# EAGLE library part REGULATOR (library RocketControlBoard)
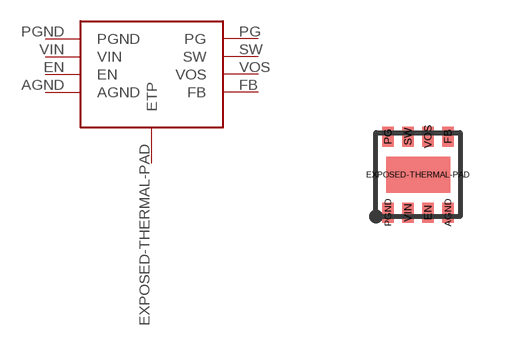
[diagram p5: symbol with the pads of 8-WFDFN-EXPOSED-PAD; footprint 8-WFDFN-EXPOSED-PAD]

Designator prefix -

## REGULATOR  [8-WFDFN-EXPOSED-PAD]
AGND  AGND
EN  EN
EXPOSED-THERMAL-PAD  ETP
FB  FB
PG  PG
PGND  PGND
SW  SW
VIN  VIN
VOS  VOS

## Footprint 8-WFDFN-EXPOSED-PAD (pad centres in mm)
smd 0.28 x 0.5: AGND 1.5,0; EN 1,0; FB 1.5,1.9; PG 0,1.9; PGND 0,0; SW 0.5,1.9; VIN 0.5,0; VOS 1,1.9
smd 1.6 x 0.9: EXPOSED-THERMAL-PAD 0.75,0.95